# EAGLE library part LTC3527-1 (library PowerProducts)
Dual 800mA/400mA, 1.2MHz/2.2MHz Synchronous Step-Up DC/DC Converters
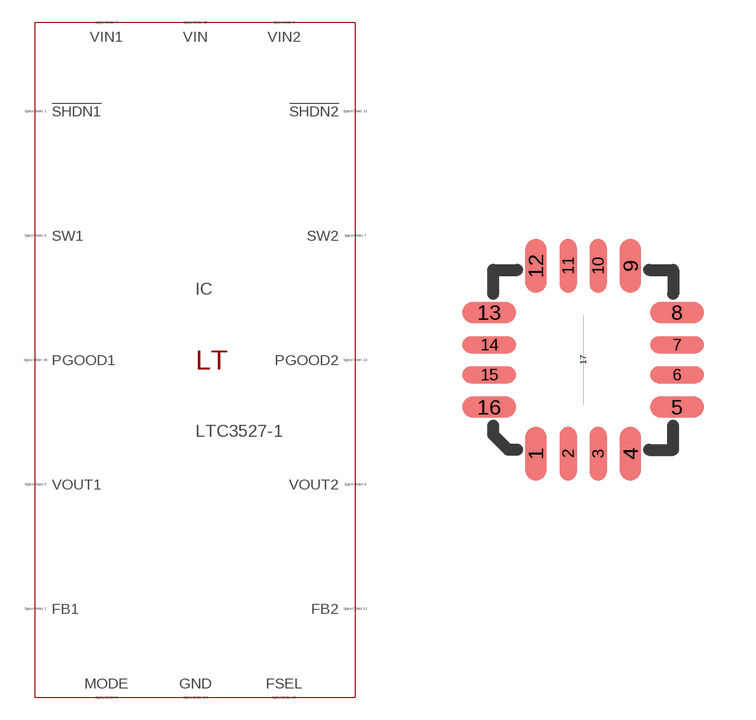
[diagram p211: symbol with the pads of QFN16(UD); footprint QFN16(UD)]

Designator prefix IC

## LTC3527-1 (SPICEMODEL: LTC3527-1.sub; SPICEPREFIX: X; VALUE2: LTC3527-1)  [QFN16(UD)]
1  !SHDN1  pas
2  FB1  pas
3  MODE  pas
4  VIN1  pas
5  VOUT1  pas
6  SW1  pas
7  SW2  pas
8  VOUT2  pas
9  VIN2  pas
10  FSEL  pas
11  FB2  pas
12  !SHDN2  pas
13  PGOOD2  pas
14  GND  pas
15  VIN  pas
16  PGOOD1  pas
17  GND  pas

## Footprint QFN16(UD) (pad centres in mm)
Package generated from: QFN16(UD).asc (!PADS-POWERPCB-V9.3-BASIC! DESIGN DATABASE ASCII FILE 1.0) with :import-pads-powerpcb-v5.ulp Version 1.0.1 at 04.10.2012 14:11:23
smd 0.54 x 1.35: 1 -1.185,-2.348; 4 1.185,-2.348; 9 1.185,2.348; 12 -1.185,2.348
smd 0.42 x 1.35: 2 -0.375,-2.348; 3 0.375,-2.348; 10 0.375,2.348; 11 -0.375,2.348
smd 1.35 x 0.54: 5 2.348,-1.185; 8 2.348,1.185; 13 -2.348,1.185; 16 -2.348,-1.185
smd 1.35 x 0.42: 6 2.348,-0.375; 7 2.348,0.375; 14 -2.348,0.375; 15 -2.348,-0.375
smd 0 x 2.25: 17 0,0